# Altium integrated library ON Semi MOSFETs.IntLib: 1097 symbols (part 1 of 26)
Pins are listed as number, name and electrical type; pins without a type are passive.

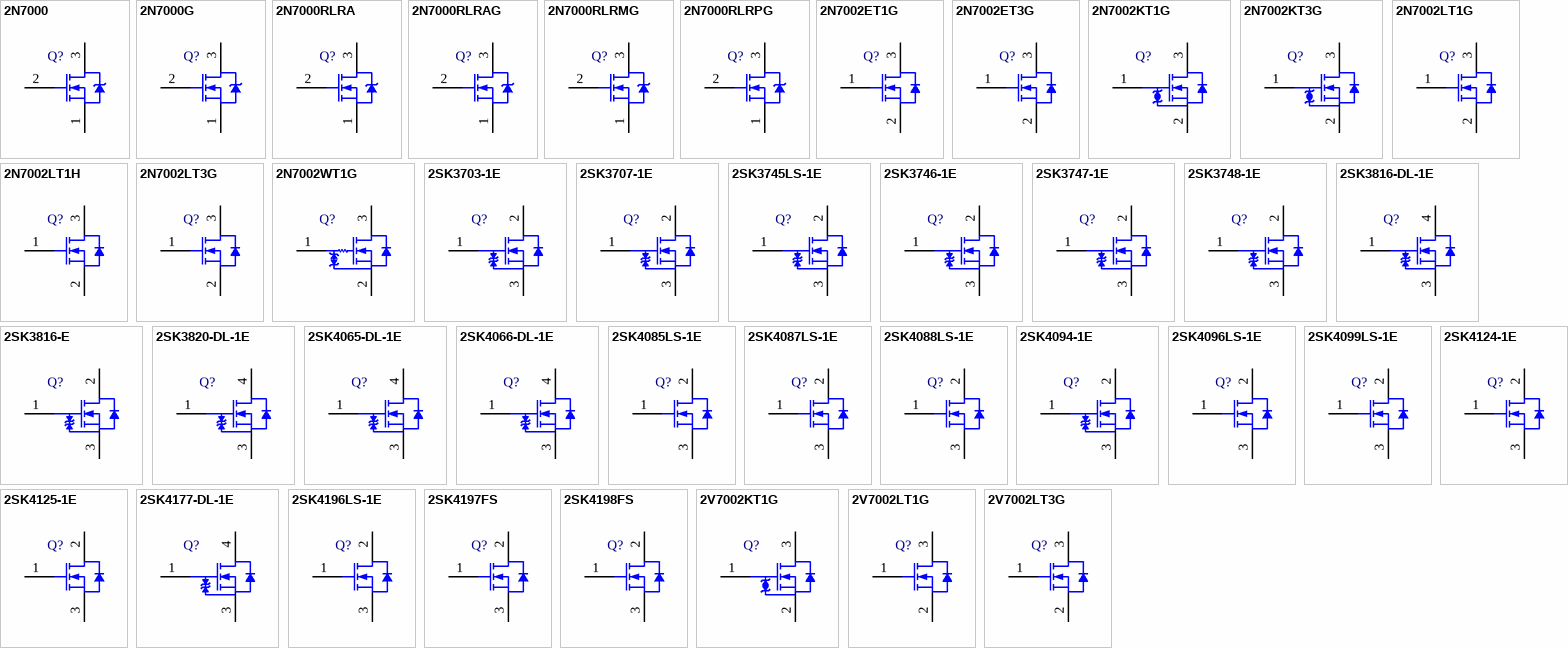
[diagram p0: symbols 2N7000 to 2V7002LT3G]

## 2N7000
designator Q?
Small Signal MOSFET, 200 mA, 60 V, N-Channel, 3-Pin TO-92, Bulk Box; Manufacturer: On Semiconductor; PartNumber: 2N7000; Channel Polarity: N Channel; Ciss Typ (pF): 60; Configuration: Single; Coss Typ (pF): 25; Crss Typ (pF): 5; ID Max (A): 0.2; PD Max (W): 0.35; VGS Max (V): 20; VGS(th) Max (V): 3; DatasheetVersion: Rev. 8; PackageVersion: Rev. AM; PackageReference: TO-92-3-29-11_AM_SL; PackageDescription: 3-Pin Transistor Outline, Body 4.825 x 3.685 mm, Pitch 1.27 mm; Package Type: TO-92; Packing: Bulk Box; V(BR)DSS Min (V): 60; Mounting Technology: Through Hole; ComponentLink1Description: Manufacturer URL; ComponentLink1URL: http://www.onsemi.com/; ComponentLink2Description: Datasheet; ComponentLink2URL: http://www.onsemi.com/pub_link/Collateral/2N7000-D.PDF; ComponentLink3Description: Package Specification; ComponentLink3URL: http://www.onsemi.cn/pub_link/Collateral/2N6426-D.PDF
footprint ONSC-TO-92-3-29-11 (TO, 3-Leads, Body Dia 4.7mm, Pitch 1.27mm)
pins: 1 S, 2 G, 3 D

## 2N7000G
designator Q?
Small Signal MOSFET, 200 mA, 60 V, N-Channel, 3-Pin TO-92, Pb-Free, Bulk Box; Manufacturer: On Semiconductor; PartNumber: 2N7000G; Channel Polarity: N Channel; Ciss Typ (pF): 60; Configuration: Single; Coss Typ (pF): 25; Crss Typ (pF): 5; ID Max (A): 0.2; PD Max (W): 0.35; VGS Max (V): 20; VGS(th) Max (V): 3; DatasheetVersion: Rev. 8; PackageVersion: Rev. AM; PackageReference: TO-92-3-29-11_AM_SL; PackageDescription: 3-Pin Transistor Outline, Body 4.825 x 3.685 mm, Pitch 1.27 mm; Supplier 1: Digi-Key; Supplier Part Number 1: 2N7000GOS-ND; Supplier 2: Farnell; Supplier Part Number 2: 1459027; Supplier 3: Newark; Supplier Part Number 3: 88H5170; Supplier 4: Mouser; Supplier Part Number 4: 863-2N7000G; Package Type: TO-92; Packing: Bulk Box; RoHS: Pb-Free; V(BR)DSS Min (V): 60; Mounting Technology: Through Hole; ComponentLink1Description: Manufacturer URL; ComponentLink1URL: http://www.onsemi.com/; ComponentLink2Description: Datasheet; ComponentLink2URL: http://www.onsemi.com/pub_link/Collateral/2N7000-D.PDF; ComponentLink3Description: Package Specification; ComponentLink3URL: http://www.onsemi.cn/pub_link/Collateral/2N6426-D.PDF
footprint ONSC-TO-92-3-29-11 (TO, 3-Leads, Body Dia 4.7mm, Pitch 1.27mm)
pins: 1 S, 2 G, 3 D

## 2N7000RLRA
designator Q?
Small Signal MOSFET, 200 mA, 60 V, N-Channel, 3-Pin TO-92, Tape and Reel; Manufacturer: On Semiconductor; PartNumber: 2N7000RLRA; Channel Polarity: N Channel; Ciss Typ (pF): 60; Configuration: Single; Coss Typ (pF): 25; Crss Typ (pF): 5; ID Max (A): 0.2; PD Max (W): 0.35; VGS Max (V): 20; VGS(th) Max (V): 3; DatasheetVersion: Rev. 8; PackageVersion: Rev. AM; PackageReference: TO-92-3-29-11_AM_BL; PackageDescription: 3-Pin Transistor Outline, Body 4.825 x 3.685 mm, Pitch 1.27 mm; Supplier 1: Digi-Key; Supplier Part Number 1: 2N7000RLRAOSTR-ND; Supplier 2: Digi-Key; Supplier Part Number 2: 2N7000RLRAOSCT-ND; Package Type: TO-92; Packing: Tape and Reel; V(BR)DSS Min (V): 60; Mounting Technology: Through Hole; ComponentLink1Description: Manufacturer URL; ComponentLink1URL: http://www.onsemi.com/; ComponentLink2Description: Datasheet; ComponentLink2URL: http://www.onsemi.com/pub_link/Collateral/2N7000-D.PDF; ComponentLink3Description: Package Specification; ComponentLink3URL: http://www.onsemi.com/pub_link/Collateral/MAC97-D.PDF
footprint ONSC-TO-92-3-29-11_AM_BL (TO, 3-Leads, Body Dia 4.7mm, Pitch 2.6mm)
pins: 1 S, 2 G, 3 D

## 2N7000RLRAG
designator Q?
Small Signal MOSFET, 200 mA, 60 V, N-Channel, 3-Pin TO-92, Pb-Free, Tape and Reel; Manufacturer: On Semiconductor; PartNumber: 2N7000RLRAG; Channel Polarity: N Channel; Ciss Typ (pF): 60; Configuration: Single; Coss Typ (pF): 25; Crss Typ (pF): 5; ID Max (A): 0.2; PD Max (W): 0.35; VGS Max (V): 20; VGS(th) Max (V): 3; DatasheetVersion: Rev. 8; PackageVersion: Rev. AM; PackageReference: TO-92-3-29-11_AM_BL; PackageDescription: 3-Pin Transistor Outline, Body 4.825 x 3.685 mm, Pitch 1.27 mm; Supplier 1: Digi-Key; Supplier Part Number 1: 2N7000RLRAGOSTR-ND; Supplier 2: Digi-Key; Supplier Part Number 2: 2N7000RLRAGOSCT-ND; Supplier 3: Farnell; Supplier Part Number 3: 1155745; Supplier 4: Farnell; Supplier Part Number 4: 2370859; Supplier 5: Newark; Supplier Part Number 5: 88H5171; Supplier 6: Newark; Supplier Part Number 6: 67R1417; Supplier 7: Mouser; Supplier Part Number 7: 863-2N7000RLRAG; Package Type: TO-92; Packing: Tape and Reel; RoHS: Pb-Free; V(BR)DSS Min (V): 60; Mounting Technology: Through Hole; ComponentLink1Description: Manufacturer URL; ComponentLink1URL: http://www.onsemi.com/; ComponentLink2Description: Datasheet; ComponentLink2URL: http://www.onsemi.com/pub_link/Collateral/2N7000-D.PDF; ComponentLink3Description: Package Specification; ComponentLink3URL: http://www.onsemi.com/pub_link/Collateral/MAC97-D.PDF
footprint ONSC-TO-92-3-29-11_AM_BL (TO, 3-Leads, Body Dia 4.7mm, Pitch 2.6mm)
pins: 1 S, 2 G, 3 D

## 2N7000RLRMG
designator Q?
Small Signal MOSFET, 200 mA, 60 V, N-Channel, 3-Pin TO-92, Pb-Free, Fan-Fold; Manufacturer: On Semiconductor; PartNumber: 2N7000RLRMG; Channel Polarity: N Channel; Ciss Typ (pF): 60; Configuration: Single; Coss Typ (pF): 25; Crss Typ (pF): 5; ID Max (A): 0.2; PD Max (W): 0.35; VGS Max (V): 20; VGS(th) Max (V): 3; DatasheetVersion: Rev. 8; PackageVersion: Rev. AM; PackageReference: TO-92-3-29-11_AM_BL; PackageDescription: 3-Pin Transistor Outline, Body 4.825 x 3.685 mm, Pitch 1.27 mm; Supplier 1: Digi-Key; Supplier Part Number 1: 2N7000RLRMG-ND; Supplier 2: Mouser; Supplier Part Number 2: 863-2N7000RLRMG; Package Type: TO-92; Packing: Fan-Fold; RoHS: Pb-Free; V(BR)DSS Min (V): 60; Mounting Technology: Through Hole; ComponentLink1Description: Manufacturer URL; ComponentLink1URL: http://www.onsemi.com/; ComponentLink2Description: Datasheet; ComponentLink2URL: http://www.onsemi.com/pub_link/Collateral/2N7000-D.PDF; ComponentLink3Description: Package Specification; ComponentLink3URL: http://www.onsemi.com/pub_link/Collateral/MAC97-D.PDF
footprint ONSC-TO-92-3-29-11_AM_BL (TO, 3-Leads, Body Dia 4.7mm, Pitch 2.6mm)
pins: 1 S, 2 G, 3 D

## 2N7000RLRPG
designator Q?
Small Signal MOSFET, 200 mA, 60 V, N-Channel, 3-Pin TO-92, Pb-Free, Fan-Fold; Manufacturer: On Semiconductor; PartNumber: 2N7000RLRPG; Channel Polarity: N Channel; Ciss Typ (pF): 60; Configuration: Single; Coss Typ (pF): 25; Crss Typ (pF): 5; ID Max (A): 0.2; PD Max (W): 0.35; VGS Max (V): 20; VGS(th) Max (V): 3; DatasheetVersion: Rev. 8; PackageVersion: Rev. AM; PackageReference: TO-92-3-29-11_AM_BL; PackageDescription: 3-Pin Transistor Outline, Body 4.825 x 3.685 mm, Pitch 1.27 mm; Supplier 1: Digi-Key; Supplier Part Number 1: 2N7000RLRPG-ND; Supplier 2: Mouser; Supplier Part Number 2: 863-2N7000RLRPG; Package Type: TO-92; Packing: Fan-Fold; RoHS: Pb-Free; V(BR)DSS Min (V): 60; Mounting Technology: Through Hole; ComponentLink1Description: Manufacturer URL; ComponentLink1URL: http://www.onsemi.com/; ComponentLink2Description: Datasheet; ComponentLink2URL: http://www.onsemi.com/pub_link/Collateral/2N7000-D.PDF; ComponentLink3Description: Package Specification; ComponentLink3URL: http://www.onsemi.com/pub_link/Collateral/MAC97-D.PDF
footprint ONSC-TO-92-3-29-11_AM_BL (TO, 3-Leads, Body Dia 4.7mm, Pitch 2.6mm)
pins: 1 S, 2 G, 3 D

## 2N7002ET1G
designator Q?
Small Signal MOSFET, 60 V, 310 mA, Single, N-Channel, 3-Pin SOT-23, Pb-Free, Tape and Reel; Manufacturer: On Semiconductor; PartNumber: 2N7002ET1G; Channel Polarity: N Channel; Ciss Typ (pF): 26.7; Coss Typ (pF): 4.6; Crss Typ (pF): 2.9; ID Max (A): 0.31; V(BR)DSS Min (V): 60; VGS Max (V): 20; VGS(th) Max (V): 2.5; DatasheetVersion: Rev. 3; PackageVersion: Rev. AP, 11/2009; PackageReference: SOT-23-3-318-08; PackageDescription: 3-Pin Small Outline Transistor, Body 2.92 x 1.3 mm, Pitch 0.95 mm; Supplier 1: Digi-Key; Supplier Part Number 1: 2N7002ET1GOSTR-ND; Supplier 2: Digi-Key; Supplier Part Number 2: 2N7002ET1GOSCT-ND; Supplier 3: Digi-Key; Supplier Part Number 3: 2N7002ET1GOSDKR-ND; Supplier 4: Farnell; Supplier Part Number 4: 2317895; Supplier 5: Farnell; Supplier Part Number 5: 2317616; Supplier 6: Newark; Supplier Part Number 6: 09R9861; Supplier 7: Newark; Supplier Part Number 7: 50M2216; Supplier 8: Mouser; Supplier Part Number 8: 863-2N7002ET1G; Configuration: Single; Package Type: SOT-23-3; Packing: Tape and Reel; RoHS: Pb-Free; Mounting Technology: Surface Mount; ComponentLink1Description: Manufacturer URL; ComponentLink1URL: http://www.onsemi.com/; ComponentLink2Description: Datasheet; ComponentLink2URL: http://www.onsemi.com/pub_link/Collateral/2N7002E-D.PDF; ComponentLink3Description: Package Specification; ComponentLink3URL: http://www.onsemi.cn/pub_link/Collateral/318-08.PDF
footprint ONSC-SOT-23-3-318-08_V (SOT23, 3-Leads, Body 2.92x1.3mm, Pitch 0.95mm)
pins: 1 G, 2 S, 3 D

## 2N7002ET3G
designator Q?
Small Signal MOSFET, 60 V, 310 mA, Single, N-Channel, 3-Pin SOT-23, Pb-Free, Tape and Reel; Manufacturer: On Semiconductor; PartNumber: 2N7002ET3G; Channel Polarity: N Channel; Ciss Typ (pF): 26.7; Coss Typ (pF): 4.6; Crss Typ (pF): 2.9; ID Max (A): 0.31; V(BR)DSS Min (V): 60; VGS Max (V): 20; VGS(th) Max (V): 2.5; DatasheetVersion: Rev. 3; PackageVersion: Rev. AP, 11/2009; PackageReference: SOT-23-3-318-08; PackageDescription: 3-Pin Small Outline Transistor, Body 2.92 x 1.3 mm, Pitch 0.95 mm; Supplier 1: Digi-Key; Supplier Part Number 1: 2N7002ET3G-ND; Supplier 2: Newark; Supplier Part Number 2: 09R9862; Supplier 3: Mouser; Supplier Part Number 3: 863-2N7002ET3G; Configuration: Single; Package Type: SOT-23-3; Packing: Tape and Reel; RoHS: Pb-Free; Mounting Technology: Surface Mount; ComponentLink1Description: Manufacturer URL; ComponentLink1URL: http://www.onsemi.com/; ComponentLink2Description: Datasheet; ComponentLink2URL: http://www.onsemi.com/pub_link/Collateral/2N7002E-D.PDF; ComponentLink3Description: Package Specification; ComponentLink3URL: http://www.onsemi.cn/pub_link/Collateral/318-08.PDF
footprint ONSC-SOT-23-3-318-08_V (SOT23, 3-Leads, Body 2.92x1.3mm, Pitch 0.95mm)
pins: 1 G, 2 S, 3 D

## 2N7002KT1G
designator Q?
Small Signal MOSFET, 60 V, 380 mA, Single, N-Channel, 3-Pin SOT-23, Pb-Free, Tape and Reel; Manufacturer: On Semiconductor; PartNumber: 2N7002KT1G; Channel Polarity: N Channel; Ciss Typ (pF): 24.5; Coss Typ (pF): 4.2; Crss Typ (pF): 2.2; ID Max (A): 0.38; V(BR)DSS Min (V): 60; VGS Max (V): 20; VGS(th) Max (V): 2.3; DatasheetVersion: Rev. 11; PackageVersion: Rev. AP, 11/2009; PackageReference: SOT-23-3-318-08; PackageDescription: 3-Pin Small Outline Transistor, Body 2.92 x 1.3 mm, Pitch 0.95 mm; Supplier 1: Digi-Key; Supplier Part Number 1: 2N7002KT1GOSTR-ND; Supplier 2: Digi-Key; Supplier Part Number 2: 2N7002KT1GOSCT-ND; Supplier 3: Digi-Key; Supplier Part Number 3: 2N7002KT1GOSDKR-ND; Supplier 4: Farnell; Supplier Part Number 4: 2317619; Supplier 5: Farnell; Supplier Part Number 5: 2317894; Supplier 6: Newark; Supplier Part Number 6: 50M6388; Supplier 7: Newark; Supplier Part Number 7: 09R9863; Supplier 8: Mouser; Supplier Part Number 8: 863-2N7002KT1G; Configuration: Single; Package Type: SOT-23-3; Packing: Tape and Reel; RoHS: Pb-Free; Mounting Technology: Surface Mount; ComponentLink1Description: Manufacturer URL; ComponentLink1URL: http://www.onsemi.com/; ComponentLink2Description: Datasheet; ComponentLink2URL: http://www.onsemi.com/pub_link/Collateral/2N7002K-D.PDF; ComponentLink3Description: Package Specification; ComponentLink3URL: http://www.onsemi.cn/pub_link/Collateral/318-08.PDF
footprint ONSC-SOT-23-3-318-08_V (SOT23, 3-Leads, Body 2.92x1.3mm, Pitch 0.95mm)
pins: 1 G, 2 S, 3 D

## 2N7002KT3G
designator Q?
Small Signal MOSFET, 60 V, 380 mA, Single, N-Channel, 3-Pin SOT-23, Pb-Free, Tape and Reel; Manufacturer: On Semiconductor; PartNumber: 2N7002KT3G; Channel Polarity: N Channel; Ciss Typ (pF): 24.5; Coss Typ (pF): 4.2; Crss Typ (pF): 2.2; ID Max (A): 0.38; V(BR)DSS Min (V): 60; VGS Max (V): 20; VGS(th) Max (V): 2.3; DatasheetVersion: Rev. 11; PackageVersion: Rev. AP, 11/2009; PackageReference: SOT-23-3-318-08; PackageDescription: 3-Pin Small Outline Transistor, Body 2.92 x 1.3 mm, Pitch 0.95 mm; Supplier 1: Digi-Key; Supplier Part Number 1: 2N7002KT3G-ND; Supplier 2: Mouser; Supplier Part Number 2: 863-2N7002KT3G; Configuration: Single; Package Type: SOT-23-3; Packing: Tape and Reel; RoHS: Pb-Free; Mounting Technology: Surface Mount; ComponentLink1Description: Manufacturer URL; ComponentLink1URL: http://www.onsemi.com/; ComponentLink2Description: Datasheet; ComponentLink2URL: http://www.onsemi.com/pub_link/Collateral/2N7002K-D.PDF; ComponentLink3Description: Package Specification; ComponentLink3URL: http://www.onsemi.cn/pub_link/Collateral/318-08.PDF
footprint ONSC-SOT-23-3-318-08_V (SOT23, 3-Leads, Body 2.92x1.3mm, Pitch 0.95mm)
pins: 1 G, 2 S, 3 D

## 2N7002LT1G
designator Q?
Small Signal MOSFET, 60 V, 115 mA, N-Channel, 3-Pin SOT-23, Pb-Free, Tape and Reel; Manufacturer: On Semiconductor; PartNumber: 2N7002LT1G; Channel Polarity: N Channel; Configuration: Single; ID Max (A): 0.115; V(BR)DSS Min (V): 60; VGS Max (V): 20; VGS(th) Max (V): 2.5; DatasheetVersion: Rev. 7; PackageVersion: Rev. AP, 11/2009; PackageReference: SOT-23-3-318-08; PackageDescription: 3-Pin Small Outline Transistor, Body 2.92 x 1.3 mm, Pitch 0.95 mm; Supplier 1: Digi-Key; Supplier Part Number 1: 2N7002LT1GOSTR-ND; Supplier 2: Digi-Key; Supplier Part Number 2: 2N7002LT1GOSCT-ND; Supplier 3: Digi-Key; Supplier Part Number 3: 2N7002LT1GOSDKR-ND; Supplier 4: Farnell; Supplier Part Number 4: 9558624RL; Supplier 5: Farnell; Supplier Part Number 5: 9558624; Supplier 6: Farnell; Supplier Part Number 6: 2363494; Supplier 7: Newark; Supplier Part Number 7: 67R1418; Supplier 8: Newark; Supplier Part Number 8: 83H7920; Supplier 9: Mouser; Supplier Part Number 9: 863-2N7002LT1G; Package Type: SOT-23-3; Packing: Tape and Reel; RoHS: Pb-Free; Mounting Technology: Surface Mount; ComponentLink1Description: Manufacturer URL; ComponentLink1URL: http://www.onsemi.com/; ComponentLink2Description: Datasheet; ComponentLink2URL: http://www.onsemi.com/pub_link/Collateral/2N7002L-D.PDF; ComponentLink3Description: Package Specification; ComponentLink3URL: http://www.onsemi.cn/pub_link/Collateral/318-08.PDF
footprint ONSC-SOT-23-3-318-08_V (SOT23, 3-Leads, Body 2.92x1.3mm, Pitch 0.95mm)
pins: 1 G, 2 S, 3 D

## 2N7002LT1H
designator Q?
Small Signal MOSFET, 60 V, 115 mA, N-Channel, 3-Pin SOT-23, Pb-Free, Tape and Reel; Manufacturer: On Semiconductor; PartNumber: 2N7002LT1H; Channel Polarity: N Channel; Configuration: Single; ID Max (A): 0.115; V(BR)DSS Min (V): 60; VGS Max (V): 20; VGS(th) Max (V): 2.5; DatasheetVersion: Rev. 7; PackageVersion: Rev. AP, 11/2009; PackageReference: SOT-23-3-318-08; PackageDescription: 3-Pin Small Outline Transistor, Body 2.92 x 1.3 mm, Pitch 0.95 mm; Supplier 1: Mouser; Supplier Part Number 1: N/A; Package Type: SOT-23-3; Packing: Tape and Reel; RoHS: Pb-Free; Mounting Technology: Surface Mount; ComponentLink1Description: Manufacturer URL; ComponentLink1URL: http://www.onsemi.com/; ComponentLink2Description: Datasheet; ComponentLink2URL: http://www.onsemi.com/pub_link/Collateral/2N7002L-D.PDF; ComponentLink3Description: Package Specification; ComponentLink3URL: http://www.onsemi.cn/pub_link/Collateral/318-08.PDF
footprint ONSC-SOT-23-3-318-08_V (SOT23, 3-Leads, Body 2.92x1.3mm, Pitch 0.95mm)
pins: 1 G, 2 S, 3 D

## 2N7002LT3G
designator Q?
Small Signal MOSFET, 60 V, 115 mA, N-Channel, 3-Pin SOT-23, Pb-Free, Tape and Reel; Manufacturer: On Semiconductor; PartNumber: 2N7002LT3G; Channel Polarity: N Channel; Configuration: Single; ID Max (A): 0.115; V(BR)DSS Min (V): 60; VGS Max (V): 20; VGS(th) Max (V): 2.5; DatasheetVersion: Rev. 7; PackageVersion: Rev. AP, 11/2009; PackageReference: SOT-23-3-318-08; PackageDescription: 3-Pin Small Outline Transistor, Body 2.92 x 1.3 mm, Pitch 0.95 mm; Supplier 1: Digi-Key; Supplier Part Number 1: 2N7002LT3GOSTR-ND; Supplier 2: Digi-Key; Supplier Part Number 2: 2N7002LT3GOSCT-ND; Supplier 3: Digi-Key; Supplier Part Number 3: 2N7002LT3GOSDKR-ND; Supplier 4: Farnell; Supplier Part Number 4: 1764537; Supplier 5: Farnell; Supplier Part Number 5: 2372924; Supplier 6: Newark; Supplier Part Number 6: 98H1012; Supplier 7: Newark; Supplier Part Number 7: 09R9864; Supplier 8: Mouser; Supplier Part Number 8: 863-2N7002LT3G; Package Type: SOT-23-3; Packing: Tape and Reel; RoHS: Pb-Free; Mounting Technology: Surface Mount; ComponentLink1Description: Manufacturer URL; ComponentLink1URL: http://www.onsemi.com/; ComponentLink2Description: Datasheet; ComponentLink2URL: http://www.onsemi.com/pub_link/Collateral/2N7002L-D.PDF; ComponentLink3Description: Package Specification; ComponentLink3URL: http://www.onsemi.cn/pub_link/Collateral/318-08.PDF
footprint ONSC-SOT-23-3-318-08_V (SOT23, 3-Leads, Body 2.92x1.3mm, Pitch 0.95mm)
pins: 1 G, 2 S, 3 D

## 2N7002WT1G
designator Q?
Small Signal MOSFET, 60 V, 340 mA, Single, N-Channel, 3-Pin SC70, Pb-Free, Tape and Reel; Manufacturer: On Semiconductor; PartNumber: 2N7002WT1G; Channel Polarity: N Channel; Ciss Typ (pF): 24.5; Coss Typ (pF): 4.2; Crss Typ (pF): 2.2; ID Max (A): 0.34; V(BR)DSS Min (V): 60; VGS Max (V): 20; VGS(th) Max (V): 2.5; DatasheetVersion: Rev. 5; PackageVersion: Rev. N, 11/2008; PackageReference: SC-70-3-419-04; PackageDescription: 3-Pin Small Outline Transistor, Body 2 x 1.25 mm, Pitch 0.65 mm; Supplier 1: Digi-Key; Supplier Part Number 1: 2N7002WT1GOSTR-ND; Supplier 2: Digi-Key; Supplier Part Number 2: 2N7002WT1GOSCT-ND; Supplier 3: Digi-Key; Supplier Part Number 3: 2N7002WT1GOSDKR-ND; Supplier 4: Farnell; Supplier Part Number 4: 2369562; Supplier 5: Farnell; Supplier Part Number 5: 1764538; Supplier 6: Newark; Supplier Part Number 6: 09R9865; Supplier 7: Newark; Supplier Part Number 7: 50M6390; Supplier 8: Mouser; Supplier Part Number 8: 863-2N7002WT1G; Configuration: Single; Package Type: SC-70-3 / SOT-323-3; Packing: Tape and Reel; RoHS: Pb-Free; Mounting Technology: Surface Mount; ComponentLink1Description: Manufacturer URL; ComponentLink1URL: http://www.onsemi.com/; ComponentLink2Description: Datasheet; ComponentLink2URL: http://www.onsemi.com/pub_link/Collateral/2N7002W-D.PDF; ComponentLink3Description: Package Specification; ComponentLink3URL: http://www.onsemi.cn/pub_link/Collateral/419-04.PDF
footprint ONSC-SC-70-3-419-04_V (SOT23, 3-Leads, Body 2x1.25mm, Pitch 0.65mm)
pins: 1 G, 2 S, 3 D

## 2SK3703-1E
designator Q?
N-Channel Power MOSFET, 60 V, 30 A, 26 mOhm, 3-Pin TO-220, Pb-Free, Tube; Manufacturer: On Semiconductor; PartNumber: 2SK3703-1E; Channel Polarity: N Channel; Ciss Typ (pF): 1780; Configuration: Single; Coss Typ (pF): 266; Crss Typ (pF): 197; ID Max (A): 30; V(BR)DSS Min (V): 60; VGS Max (V): 20; VGS(th) Max (V): 2.6; PackageVersion: Rev. O, 11/2013; PackageReference: TO-220F-3FG-3-221AT; PackageDescription: 3-Pin Flange Mount, Vertical Straight Lead, Body 10.16 x 4.7 mm, Pitch 2.54 mm; Supplier 1: Newark; Supplier Part Number 1: 60W2033; Supplier 2: Mouser; Supplier Part Number 2: 863-2SK3703-1E; Package Type: TO-220 Fullpack, 3-Lead / TO-220F-3SG; Packing: Tube; RoHS: Pb-Free; Mounting Technology: Through Hole; ComponentLink1Description: Manufacturer URL; ComponentLink1URL: http://www.onsemi.com/; ComponentLink2Description: Datasheet; ComponentLink2URL: http://www.onsemi.com/pub_link/Collateral/2SK3703-D.PDF; ComponentLink3Description: Package Specification; ComponentLink3URL: http://www.onsemi.com/pub_link/Collateral/221AT.PDF
footprint ONSC-TO-220F-3FG-3-221AT (FM, 3-Leads, Body 10.4x4.9mm, Pitch 2.54mm)
pins: 1 G, 2 D, 3 S

## 2SK3707-1E
designator Q?
N-Channel Power MOSFET, 100 V, 20 A, 60 mOhm, 3-Pin TO-220, Pb-Free, Fan-Fold; Manufacturer: On Semiconductor; PartNumber: 2SK3707-1E; Channel Polarity: N Channel; Ciss Typ (pF): 2150; Configuration: Single; Coss Typ (pF): 160; Crss Typ (pF): 110; ID Max (A): 20; V(BR)DSS Min (V): 100; VGS(th) Max (V): 2.6; PackageVersion: Rev. O, 11/2013; PackageReference: TO-220F-3FG-3-221AT; PackageDescription: 3-Pin Flange Mount, Vertical Straight Lead, Body 10.16 x 4.7 mm, Pitch 2.54 mm; Supplier 1: Newark; Supplier Part Number 1: 60W2034; Supplier 2: Mouser; Supplier Part Number 2: 863-2SK3707-1E; Package Type: TO-220 Fullpack, 3-Lead / TO-220F-3SG; Packing: Fan-Fold; RoHS: Pb-Free; VGS Max (V): 20; Mounting Technology: Through Hole; ComponentLink1Description: Manufacturer URL; ComponentLink1URL: http://www.onsemi.com/; ComponentLink2Description: Datasheet; ComponentLink2URL: http://www.onsemi.com/pub_link/Collateral/2SK3707-D.PDF; ComponentLink3Description: Package Specification; ComponentLink3URL: http://www.onsemi.com/pub_link/Collateral/221AT.PDF
footprint ONSC-TO-220F-3FG-3-221AT (FM, 3-Leads, Body 10.4x4.9mm, Pitch 2.54mm)
pins: 1 G, 2 D, 3 S

## 2SK3745LS-1E
designator Q?
N-Channel Power MOSFET, 1500 V, 2 A, 13 Ohm, 3-Pin TO-220, Pb-Free, Tube; Manufacturer: On Semiconductor; PartNumber: 2SK3745LS-1E; Channel Polarity: N Channel; Ciss Typ (pF): 380; Configuration: Single; Coss Typ (pF): 70; Crss Typ (pF): 40; ID Max (A): 2; V(BR)DSS Min (V): 1500; VGS Max (V): 20; VGS(th) Max (V): 3.5; PackageVersion: Rev. O, 01/2012; PackageReference: TO-220F-3FS-3-221AM; PackageDescription: 3-Pin Flange Mount, Vertical Straight Lead, Body 10.16 x 4.7 mm, Pitch 2.54 mm; Supplier 1: Newark; Supplier Part Number 1: 45W5069; Supplier 2: Mouser; Supplier Part Number 2: 863-2SK3745LS-1E; Package Type: TO-220F-3FS; Packing: Tube; RoHS: Pb-Free; Mounting Technology: Through Hole; ComponentLink1Description: Manufacturer URL; ComponentLink1URL: http://www.onsemi.com/; ComponentLink2Description: Datasheet; ComponentLink2URL: http://www.onsemi.com/pub_link/Collateral/2SK3745LS-D.PDF; ComponentLink3Description: Package Specification; ComponentLink3URL: http://www.onsemi.com/pub_link/Collateral/221AM.PDF
footprint ONSC-TO-220F-3FS-3-221AM (FM, 3-Leads, Body 10.4x4.9mm, Pitch 2.54mm)
pins: 1 G, 2 D, 3 S

## 2SK3746-1E
designator Q?
N-Channel Power MOSFET, 1500 V, 2 A, 13 Ohm, 3-Pin TO-3P, Pb-Free, Tube; Manufacturer: On Semiconductor; PartNumber: 2SK3746-1E; Channel Polarity: N Channel; Ciss Typ (pF): 380; Configuration: Single; Coss Typ (pF): 70; Crss Typ (pF): 40; ID Max (A): 2; V(BR)DSS Min (V): 1500; VGS Max (V): 20; VGS(th) Max (V): 3.5; PackageVersion: Rev. O, 04/2012; PackageReference: TO-3P-3L-3-340AF; PackageDescription: 3-Pin Flange Mount, Vertical Straight Lead, Body 15.6 x 4.8 mm, Pitch 5.45 mm; Supplier 1: Mouser; Supplier Part Number 1: 863-2SK3746-1E; Package Type: TO-3P-3L; Packing: Tube; RoHS: Pb-Free; Mounting Technology: Through Hole; ComponentLink1Description: Manufacturer URL; ComponentLink1URL: http://www.onsemi.com/; ComponentLink2Description: Datasheet; ComponentLink2URL: http://www.onsemi.com/pub_link/Collateral/2SK3746-D.PDF; ComponentLink3Description: Package Specification; ComponentLink3URL: http://www.onsemi.com/pub_link/Collateral/340AF.PDF
footprint ONSC-TO-3P-3L-3-340AF (FM, 3-Leads, Body 15.8x5mm, Pitch 5.45mm)
pins: 1 G, 2 D, 3 S

## 2SK3747-1E
designator Q?
N-Channel Power MOSFET, 1500 V, 2 A, 13 Ohm, 3-Pin TO-3PF, Pb-Free, Tube; Manufacturer: On Semiconductor; PartNumber: 2SK3747-1E; Channel Polarity: N Channel; Ciss Typ (pF): 380; Configuration: Single; Coss Typ (pF): 70; Crss Typ (pF): 40; ID Max (A): 2; V(BR)DSS Min (V): 1500; VGS Max (V): 35; VGS(th) Max (V): 3.5; PackageVersion: Rev. O, 04/2012; PackageReference: TO-3PF-3L-3-340AH; PackageDescription: 3-Pin Flange Mount, Body 15.5 x 5.5 mm, Pitch 5.45 mm; Supplier 1: Newark; Supplier Part Number 1: 45W5071; Supplier 2: Mouser; Supplier Part Number 2: 863-2SK3747-1E; Package Type: TO-3PF-3L; Packing: Tube; RoHS: Pb-Free; Mounting Technology: Through Hole; ComponentLink1Description: Manufacturer URL; ComponentLink1URL: http://www.onsemi.com/; ComponentLink2Description: Datasheet; ComponentLink2URL: http://www.onsemi.com/pub_link/Collateral/2SK3747-D.PDF; ComponentLink3Description: Package Specification; ComponentLink3URL: http://www.onsemi.com/pub_link/Collateral/340AH.PDF
footprint ONSC-TO-3PF-3L-3-340AH (FM, 3-Leads, Body 15.7x5.7mm, Pitch 5.45mm)
pins: 1 G, 2 D, 3 S

## 2SK3748-1E
designator Q?
N-Channel Power MOSFET, 1500 V, 4 A, 7 Ohm, 3-Pin TO-3PF, Pb-Free, Tube; Manufacturer: On Semiconductor; PartNumber: 2SK3748-1E; Channel Polarity: N Channel; Ciss Typ (pF): 790; Configuration: Single; Coss Typ (pF): 140; Crss Typ (pF): 70; ID Max (A): 4; V(BR)DSS Min (V): 1500; VGS Max (V): 20; VGS(th) Max (V): 3.5; PackageVersion: Rev. O, 04/2012; PackageReference: TO-3PF-3L-3-340AH; PackageDescription: 3-Pin Flange Mount, Body 15.5 x 5.5 mm, Pitch 5.45 mm; Supplier 1: Newark; Supplier Part Number 1: 45W5072; Supplier 2: Mouser; Supplier Part Number 2: 863-2SK3748-1E; Package Type: TO-3PF-3L; Packing: Tube; RoHS: Pb-Free; Mounting Technology: Through Hole; ComponentLink1Description: Manufacturer URL; ComponentLink1URL: http://www.onsemi.com/; ComponentLink2Description: Datasheet; ComponentLink2URL: http://www.onsemi.com/pub_link/Collateral/2SK3748-D.PDF; ComponentLink3Description: Package Specification; ComponentLink3URL: http://www.onsemi.com/pub_link/Collateral/340AH.PDF
footprint ONSC-TO-3PF-3L-3-340AH (FM, 3-Leads, Body 15.7x5.7mm, Pitch 5.45mm)
pins: 1 G, 2 D, 3 S

## 2SK3816-DL-1E
designator Q?
N-Channel Power MOSFET, 60 V, 40 A, 26 mOhm, 3-Pin TO-263, Pb-Free, Tape and Reel; Manufacturer: On Semiconductor; PartNumber: 2SK3816-DL-1E; Channel Polarity: N Channel; Ciss Typ (pF): 1780; Configuration: Single; Coss Typ (pF): 266; Crss Typ (pF): 197; ID Max (A): 40; V(BR)DSS Min (V): 60; VGS Max (V): 20; VGS(th) Max (V): 2.6; PackageReference: TO-263-2L-3; PackageDescription: 3-Pin Flange Mount, Body 10 x 9.2 mm, Pitch 2.54 mm; Supplier 1: Newark; Supplier Part Number 1: 97W6592; Supplier 2: Mouser; Supplier Part Number 2: 863-2SK3816-DL-1E; Package Type: D2PAK / TO-263-2L; Packing: Tape and Reel; RoHS: Pb-Free; Mounting Technology: Surface Mount; ComponentLink1Description: Manufacturer URL; ComponentLink1URL: http://www.onsemi.com/; ComponentLink2Description: Datasheet; ComponentLink2URL: http://www.onsemi.com/pub/Collateral/ENN8054-D.PDF; ComponentLink3Description: Package Specification; ComponentLink3URL: http://www.onsemi.com/pub_link/Collateral/2SK3820-D.PDF
footprint ONSC-TO-263-2L-3_V (FM, 3-Leads, Body 10x9.2mm, Pitch 2.54mm)
pins: 1 G, 3 S, 4 D

## 2SK3816-E
designator Q?
N-Channel Power MOSFET, 60 V, 40 A, 26 mOhm, 3-Pin TO-262, Pb-Free, Bulk Bag; Manufacturer: On Semiconductor; PartNumber: 2SK3816-E; Channel Polarity: N Channel; Ciss Typ (pF): 1780; Configuration: Single; Coss Typ (pF): 266; Crss Typ (pF): 197; ID Max (A): 40; V(BR)DSS Min (V): 60; VGS Max (V): 20; VGS(th) Max (V): 2.6; PackageVersion: Rev. O, 03/2012; PackageReference: TO-262-3L-3-418AN; PackageDescription: 3-Pin Flange Mount, Vertical Straight Lead, Body 10 x 4.5 mm, Pitch 2.54 mm; Package Type: D2PAK / TO-263-2L; Packing: Bulk Bag; RoHS: Pb-Free; Mounting Technology: Through Hole; ComponentLink1Description: Manufacturer URL; ComponentLink1URL: http://www.onsemi.com/; ComponentLink2Description: Datasheet; ComponentLink2URL: http://www.onsemi.com/pub/Collateral/ENN8054-D.PDF; ComponentLink3Description: Package Specification; ComponentLink3URL: http://www.onsemi.com/pub_link/Collateral/418AN.PDF
footprint ONSC-TO-262-3L-3-418AN (FM, 3-Leads, Body 10.2x4.7mm, Pitch 2.54mm)
pins: 1 G, 2 D, 3 S

## 2SK3820-DL-1E
designator Q?
N-Channel Power MOSFET, 100 V, 26 A, 60 mOhm, 3-Pin TO-263, Pb-Free, Tape and Reel; Manufacturer: On Semiconductor; PartNumber: 2SK3820-DL-1E; Channel Polarity: N Channel; Ciss Typ (pF): 2150; Configuration: Single; Coss Typ (pF): 160; Crss Typ (pF): 110; ID Max (A): 26; V(BR)DSS Min (V): 100; VGS Max (V): 20; VGS(th) Max (V): 2.6; PackageReference: TO-263-2L-3; PackageDescription: 3-Pin Flange Mount, Body 10 x 9.2 mm, Pitch 2.54 mm; Supplier 1: Newark; Supplier Part Number 1: 97W6593; Supplier 2: Mouser; Supplier Part Number 2: 863-2SK3820-DL-1E; Package Type: D2PAK / TO-263-2L; Packing: Tape and Reel; RoHS: Pb-Free; Mounting Technology: Surface Mount; ComponentLink1Description: Manufacturer URL; ComponentLink1URL: http://www.onsemi.com/; ComponentLink2Description: Datasheet; ComponentLink2URL: http://www.onsemi.com/pub_link/Collateral/2SK3820-D.PDF; ComponentLink3Description: Package Specification; ComponentLink3URL: http://www.onsemi.com/pub_link/Collateral/2SK3820-D.PDF
footprint ONSC-TO-263-2L-3_V (FM, 3-Leads, Body 10x9.2mm, Pitch 2.54mm)
pins: 1 G, 3 S, 4 D

## 2SK4065-DL-1E
designator Q?
N-Channel Power MOSFET, 75 V, 100 A, 6 mOhm, 3-Pin TO-263, Pb-Free, Tape and Reel; Manufacturer: On Semiconductor; PartNumber: 2SK4065-DL-1E; Channel Polarity: N Channel; Ciss Typ (pF): 12200; Configuration: Single; Coss Typ (pF): 950; Crss Typ (pF): 730; ID Max (A): 100; V(BR)DSS Min (V): 75; VGS Max (V): 20; VGS(th) Max (V): 2.6; PackageReference: TO-263-2L-3; PackageDescription: 3-Pin Flange Mount, Body 10 x 9.2 mm, Pitch 2.54 mm; Supplier 1: Newark; Supplier Part Number 1: 60W2036; Supplier 2: Mouser; Supplier Part Number 2: 863-2SK4065-DL-1E; Package Type: D2PAK / TO-263-2L; Packing: Tape and Reel; RoHS: Pb-Free; Mounting Technology: Surface Mount; ComponentLink1Description: Manufacturer URL; ComponentLink1URL: http://www.onsemi.com/; ComponentLink2Description: Datasheet; ComponentLink2URL: http://www.onsemi.com/pub_link/Collateral/2SK4065-D.PDF; ComponentLink3Description: Package Specification; ComponentLink3URL: http://www.onsemi.com/pub_link/Collateral/2SK3820-D.PDF
footprint ONSC-TO-263-2L-3_V (FM, 3-Leads, Body 10x9.2mm, Pitch 2.54mm)
pins: 1 G, 3 S, 4 D

## 2SK4066-DL-1E
designator Q?
N-Channel Power MOSFET, 60 V, 100 A, 4.7 mOhm, 3-Pin TO-263, Pb-Free, Tape and Reel; Manufacturer: On Semiconductor; PartNumber: 2SK4066-DL-1E; Channel Polarity: N Channel; Ciss Typ (pF): 12500; Configuration: Single; Coss Typ (pF): 1200; Crss Typ (pF): 950; ID Max (A): 100; V(BR)DSS Min (V): 60; VGS Max (V): 20; VGS(th) Max (V): 2.6; PackageVersion: Rev. O, 03/2012; PackageReference: TO-263-2L-3-418AP; PackageDescription: 3-Pin Flange Mount, Body 10 x 9.2 mm, Pitch 2.54 mm; Supplier 1: Newark; Supplier Part Number 1: 60W2037; Supplier 2: Mouser; Supplier Part Number 2: 863-2SK4066-DL-1E; Package Type: D2PAK / TO-263-2L; Packing: Tape and Reel; RoHS: Pb-Free; Mounting Technology: Surface Mount; ComponentLink1Description: Manufacturer URL; ComponentLink1URL: http://www.onsemi.com/; ComponentLink2Description: Datasheet; ComponentLink2URL: http://www.onsemi.com/pub_link/Collateral/2SK4066-D.PDF; ComponentLink3Description: Package Specification; ComponentLink3URL: http://www.onsemi.com/pub_link/Collateral/418AP.PDF
footprint ONSC-TO-263-2L-3-418AP_N (DPAK, 3-Leads, Body 10.2x9.4mm, Pitch 2.54mm, IPC Medium Density)
footprint ONSC-TO-263-2L-3-418AP_L (DPAK, 3-Leads, Body 10.2x9.4mm, Pitch 2.54mm, IPC High Density)
footprint ONSC-TO-263-2L-3-418AP_M (DPAK, 3-Leads, Body 10.2x9.4mm, Pitch 2.54mm, IPC Low Density)
pins: 1 G, 3 S, 4 D

## 2SK4085LS-1E
designator Q?
N-Channel Power MOSFET, 500 V, 16 A, 430 mOhm, 3-Pin TO-220, Pb-Free, Tube; Manufacturer: On Semiconductor; PartNumber: 2SK4085LS-1E; Channel Polarity: N Channel; Ciss Typ (pF): 1200; Configuration: Single; Coss Typ (pF): 250; Crss Typ (pF): 55; V(BR)DSS Min (V): 500; VGS Max (V): 30; VGS(th) Max (V): 5; PackageVersion: Rev. O, 01/2012; PackageReference: TO-220F-3FS-3-221AM; PackageDescription: 3-Pin Flange Mount, Vertical Straight Lead, Body 10.16 x 4.7 mm, Pitch 2.54 mm; Supplier 1: Newark; Supplier Part Number 1: 46W0046; Supplier 2: Mouser; Supplier Part Number 2: 863-2SK4085LS-1E; Package Type: TO-220F-3FS; Packing: Tube; RoHS: Pb-Free; Mounting Technology: Through Hole; ComponentLink1Description: Manufacturer URL; ComponentLink1URL: http://www.onsemi.com/; ComponentLink2Description: Datasheet; ComponentLink2URL: http://www.onsemi.com/pub_link/Collateral/2SK4085LS-D.PDF; ComponentLink3Description: Package Specification; ComponentLink3URL: http://www.onsemi.com/pub_link/Collateral/221AM.PDF
footprint ONSC-TO-220F-3FS-3-221AM (FM, 3-Leads, Body 10.4x4.9mm, Pitch 2.54mm)
pins: 1 G, 2 D, 3 S

## 2SK4087LS-1E
designator Q?
N-Channel Power MOSFET, 600 V, 14 A, 610 mOhm, 3-Pin TO-220, Pb-Free, Fan-Fold; Manufacturer: On Semiconductor; PartNumber: 2SK4087LS-1E; Channel Polarity: N Channel; Ciss Typ (pF): 1200; Configuration: Single; Coss Typ (pF): 220; Crss Typ (pF): 50; V(BR)DSS Min (V): 600; VGS Max (V): 30; VGS(th) Max (V): 5; PackageVersion: Rev. O, 01/2012; PackageReference: TO-220F-3FS-3-221AM; PackageDescription: 3-Pin Flange Mount, Vertical Straight Lead, Body 10.16 x 4.7 mm, Pitch 2.54 mm; Supplier 1: Newark; Supplier Part Number 1: 60W2038; Supplier 2: Mouser; Supplier Part Number 2: 863-2SK4087LS-1E; Package Type: TO-220F-3FS; Packing: Fan-Fold; RoHS: Pb-Free; Mounting Technology: Through Hole; ComponentLink1Description: Manufacturer URL; ComponentLink1URL: http://www.onsemi.com/; ComponentLink2Description: Datasheet; ComponentLink2URL: http://www.onsemi.com/pub_link/Collateral/ENA0555-D.PDF; ComponentLink3Description: Package Specification; ComponentLink3URL: http://www.onsemi.com/pub_link/Collateral/221AM.PDF
footprint ONSC-TO-220F-3FS-3-221AM (FM, 3-Leads, Body 10.4x4.9mm, Pitch 2.54mm)
pins: 1 G, 2 D, 3 S

## 2SK4088LS-1E
designator Q?
N-Channel Power MOSFET, 650 V, 11 A, 0.85 Ohm, 3-Pin TO-220, Pb-Free, Tube; Manufacturer: On Semiconductor; PartNumber: 2SK4088LS-1E; Channel Polarity: N Channel; Ciss Typ (pF): 1000; Configuration: Single; Coss Typ (pF): 172; Crss Typ (pF): 36; V(BR)DSS Min (V): 650; VGS Max (V): 30; VGS(th) Max (V): 5; PackageVersion: Rev. O, 01/2012; PackageReference: TO-220F-3FS-3-221AM; PackageDescription: 3-Pin Flange Mount, Vertical Straight Lead, Body 10.16 x 4.7 mm, Pitch 2.54 mm; Supplier 1: Newark; Supplier Part Number 1: 72W2516; Supplier 2: Mouser; Supplier Part Number 2: 863-2SK4088LS-1E; Package Type: TO-220F-3FS; Packing: Tube; RoHS: Pb-Free; Mounting Technology: Through Hole; ComponentLink1Description: Manufacturer URL; ComponentLink1URL: http://www.onsemi.com/; ComponentLink2Description: Datasheet; ComponentLink2URL: http://www.onsemi.com/pub_link/Collateral/2SK4088LS-D.PDF; ComponentLink3Description: Package Specification; ComponentLink3URL: http://www.onsemi.com/pub_link/Collateral/221AM.PDF
footprint ONSC-TO-220F-3FS-3-221AM (FM, 3-Leads, Body 10.4x4.9mm, Pitch 2.54mm)
pins: 1 G, 2 D, 3 S

## 2SK4094-1E
designator Q?
N-Channel Power MOSFET, 60 V, 100 A, 5 mOhm, 3-Pin TO-220, Pb-Free, Tube; Manufacturer: On Semiconductor; PartNumber: 2SK4094-1E; Channel Polarity: N Channel; Ciss Typ (pF): 12500; Configuration: Single; Coss Typ (pF): 1200; Crss Typ (pF): 950; ID Max (A): 100; V(BR)DSS Min (V): 60; VGS Max (V): 20; VGS(th) Max (V): 2.6; PackageVersion: Rev. O, 03/2012; PackageReference: TO-220-3L-3-221AU; PackageDescription: 3-Pin Flange Mount, Vertical Straight Lead, Body 10 x 4.5 mm, Pitch 2.54 mm; Package Type: TO-220 3-Lead / TO-220-3L; Packing: Tube; RoHS: Pb-Free; Mounting Technology: Through Hole; ComponentLink1Description: Manufacturer URL; ComponentLink1URL: http://www.onsemi.com/; ComponentLink2Description: Datasheet; ComponentLink2URL: http://www.onsemi.com/pub_link/Collateral/ENA0523-D.PDF; ComponentLink3Description: Package Specification; ComponentLink3URL: http://www.onsemi.com/pub_link/Collateral/221AU.PDF
footprint ONSC-TO-220-3L-3-221AU (FM, 3-Leads, Body 10.2x4.7mm, Pitch 2.54mm)
pins: 1 G, 2 D, 3 S

## 2SK4096LS-1E
designator Q?
N-Channel Power MOSFET, 500 V, 8 A, 850 mOhm, 3-Pin TO-220, Pb-Free, Tube; Manufacturer: On Semiconductor; PartNumber: 2SK4096LS-1E; Channel Polarity: N Channel; Ciss Typ (pF): 600; Configuration: Single; Coss Typ (pF): 130; Crss Typ (pF): 28; V(BR)DSS Min (V): 500; VGS Max (V): 30; VGS(th) Max (V): 5; PackageVersion: Rev. O, 01/2012; PackageReference: TO-220F-3FS-3-221AM; PackageDescription: 3-Pin Flange Mount, Vertical Straight Lead, Body 10.16 x 4.7 mm, Pitch 2.54 mm; Package Type: TO-220F-3FS; Packing: Tube; RoHS: Pb-Free; Mounting Technology: Through Hole; ComponentLink1Description: Manufacturer URL; ComponentLink1URL: http://www.onsemi.com/; ComponentLink2Description: Datasheet; ComponentLink2URL: http://www.onsemi.com/pub_link/Collateral/ENA0774-D.PDF; ComponentLink3Description: Package Specification; ComponentLink3URL: http://www.onsemi.com/pub_link/Collateral/221AM.PDF
footprint ONSC-TO-220F-3FS-3-221AM (FM, 3-Leads, Body 10.4x4.9mm, Pitch 2.54mm)
pins: 1 G, 2 D, 3 S

## 2SK4099LS-1E
designator Q?
N-Channel Power MOSFET, 600 V, 8.5 A, 0.94 Ohm, 3-Pin TO-220, Pb-Free, Tube; Manufacturer: On Semiconductor; PartNumber: 2SK4099LS-1E; Channel Polarity: N Channel; Ciss Typ (pF): 750; Configuration: Single; Coss Typ (pF): 140; Crss Typ (pF): 31; V(BR)DSS Min (V): 600; VGS Max (V): 30; VGS(th) Max (V): 5; PackageVersion: Rev. O, 01/2012; PackageReference: TO-220F-3FS-3-221AM; PackageDescription: 3-Pin Flange Mount, Vertical Straight Lead, Body 10.16 x 4.7 mm, Pitch 2.54 mm; Supplier 1: Newark; Supplier Part Number 1: 72W2517; Supplier 2: Mouser; Supplier Part Number 2: 863-2SK4099LS-1E; Package Type: TO-220F-3FS; Packing: Tube; RoHS: Pb-Free; Mounting Technology: Through Hole; ComponentLink1Description: Manufacturer URL; ComponentLink1URL: http://www.onsemi.com/; ComponentLink2Description: Datasheet; ComponentLink2URL: http://www.onsemi.com/pub_link/Collateral/2SK4099LS-D.PDF; ComponentLink3Description: Package Specification; ComponentLink3URL: http://www.onsemi.com/pub_link/Collateral/221AM.PDF
footprint ONSC-TO-220F-3FS-3-221AM (FM, 3-Leads, Body 10.4x4.9mm, Pitch 2.54mm)
pins: 1 G, 2 D, 3 S

## 2SK4124-1E
designator Q?
N-Channel Power MOSFET, 500 V, 20 A, 430 mOhm, 3-Pin TO-3P, Pb-Free, Tube; Manufacturer: On Semiconductor; PartNumber: 2SK4124-1E; Channel Polarity: N Channel; Ciss Typ (pF): 1200; Configuration: Single; Coss Typ (pF): 250; Crss Typ (pF): 55; ID Max (A): 20; V(BR)DSS Min (V): 500; VGS Max (V): 30; VGS(th) Max (V): 5; PackageVersion: Rev. O, 04/2012; PackageReference: TO-3P-3L-3-340AF; PackageDescription: 3-Pin Flange Mount, Vertical Straight Lead, Body 15.6 x 4.8 mm, Pitch 5.45 mm; Supplier 1: Newark; Supplier Part Number 1: 11X5259; Supplier 2: Mouser; Supplier Part Number 2: 863-2SK4124-1E; Package Type: TO-3P-3L; Packing: Tube; RoHS: Pb-Free; Mounting Technology: Through Hole; ComponentLink1Description: Manufacturer URL; ComponentLink1URL: http://www.onsemi.com/; ComponentLink2Description: Datasheet; ComponentLink2URL: http://www.onsemi.com/pub_link/Collateral/2SK4124-D.PDF; ComponentLink3Description: Package Specification; ComponentLink3URL: http://www.onsemi.com/pub_link/Collateral/340AF.PDF
footprint ONSC-TO-3P-3L-3-340AF (FM, 3-Leads, Body 15.8x5mm, Pitch 5.45mm)
pins: 1 G, 2 D, 3 S

## 2SK4125-1E
designator Q?
N-Channel Power MOSFET, 600 V, 17 A, 610 mOhm, 3-Pin TO-3P, Pb-Free, Tube; Manufacturer: On Semiconductor; PartNumber: 2SK4125-1E; Channel Polarity: N Channel; Ciss Typ (pF): 1200; Configuration: Single; Coss Typ (pF): 220; Crss Typ (pF): 50; ID Max (A): 17; V(BR)DSS Min (V): 600; VGS Max (V): 30; VGS(th) Max (V): 5; PackageVersion: Rev. O, 04/2012; PackageReference: TO-3P-3L-3-340AF; PackageDescription: 3-Pin Flange Mount, Vertical Straight Lead, Body 15.6 x 4.8 mm, Pitch 5.45 mm; Supplier 1: Newark; Supplier Part Number 1: 60W2039; Supplier 2: Mouser; Supplier Part Number 2: 863-2SK4125-1E; Package Type: TO-3P-3L; Packing: Tube; RoHS: Pb-Free; Mounting Technology: Through Hole; ComponentLink1Description: Manufacturer URL; ComponentLink1URL: http://www.onsemi.com/; ComponentLink2Description: Datasheet; ComponentLink2URL: http://www.onsemi.com/pub_link/Collateral/2SK4125-D.PDF; ComponentLink3Description: Package Specification; ComponentLink3URL: http://www.onsemi.com/pub_link/Collateral/340AF.PDF
footprint ONSC-TO-3P-3L-3-340AF (FM, 3-Leads, Body 15.8x5mm, Pitch 5.45mm)
pins: 1 G, 2 D, 3 S

## 2SK4177-DL-1E
designator Q?
N-Channel Power MOSFET, 1500 V, 2 A, 13 Ohm, 3-Pin TO-263, Pb-Free, Tape and Reel; Manufacturer: On Semiconductor; PartNumber: 2SK4177-DL-1E; Channel Polarity: N Channel; Ciss Typ (pF): 380; Configuration: Single; Coss Typ (pF): 70; Crss Typ (pF): 40; ID Max (A): 2; PD Max (W): 80; V(BR)DSS Min (V): 1500; VGS Max (V): 20; VGS(th) Max (V): 3.5; PackageReference: TO-263-2L-3; PackageDescription: 3-Pin Flange Mount, Body 10 x 9.2 mm, Pitch 2.54 mm; Supplier 1: Newark; Supplier Part Number 1: 60W2040; Supplier 2: Mouser; Supplier Part Number 2: 863-2SK4177-DL-1E; Package Type: D2PAK / TO-263-2L; Packing: Tape and Reel; RoHS: Pb-Free; Mounting Technology: Surface Mount; ComponentLink1Description: Manufacturer URL; ComponentLink1URL: http://www.onsemi.com/; ComponentLink2Description: Datasheet; ComponentLink2URL: http://www.onsemi.com/pub_link/Collateral/ENA0869-D.PDF; ComponentLink3Description: Package Specification; ComponentLink3URL: http://www.onsemi.com/pub_link/Collateral/2SK3820-D.PDF
footprint ONSC-TO-263-2L-3_V (FM, 3-Leads, Body 10x9.2mm, Pitch 2.54mm)
pins: 1 G, 3 S, 4 D

## 2SK4196LS-1E
designator Q?
N-Channel Power MOSFET, 500 V, 5.5 A, 1.56 Ohm, 3-Pin TO-220, Pb-Free, Tube; Manufacturer: On Semiconductor; PartNumber: 2SK4196LS-1E; Channel Polarity: N Channel; Ciss Typ (pF): 360; Configuration: Single; Coss Typ (pF): 77; Crss Typ (pF): 17; V(BR)DSS Min (V): 500; VGS Max (V): 30; VGS(th) Max (V): 5; PackageVersion: Rev. O, 01/2012; PackageReference: TO-220F-3FS-3-221AM; PackageDescription: 3-Pin Flange Mount, Vertical Straight Lead, Body 10.16 x 4.7 mm, Pitch 2.54 mm; Package Type: TO-220F-3FS; Packing: Tube; RoHS: Pb-Free; Mounting Technology: Through Hole; ComponentLink1Description: Manufacturer URL; ComponentLink1URL: http://www.onsemi.com/; ComponentLink2Description: Datasheet; ComponentLink2URL: http://www.onsemi.com/pub_link/Collateral/ENA1233-D.PDF; ComponentLink3Description: Package Specification; ComponentLink3URL: http://www.onsemi.com/pub_link/Collateral/221AM.PDF
footprint ONSC-TO-220F-3FS-3-221AM (FM, 3-Leads, Body 10.4x4.9mm, Pitch 2.54mm)
pins: 1 G, 2 D, 3 S

## 2SK4197FS
designator Q?
N-Channel Power MOSFET, 600 V, 3.5 A, 3.25 Ohm, 3-Pin TO-220, Pb-Free, Tube; Manufacturer: On Semiconductor; PartNumber: 2SK4197FS; Channel Polarity: N Channel; Ciss Typ (pF): 260; Configuration: Single; Coss Typ (pF): 50; Crss Typ (pF): 9.7; V(BR)DSS Min (V): 600; VGS Max (V): 30; VGS(th) Max (V): 5; PackageVersion: Rev. O, 01/2012; PackageReference: TO-220F-3FS-3-221AM; PackageDescription: 3-Pin Flange Mount, Vertical Straight Lead, Body 10.16 x 4.7 mm, Pitch 2.54 mm; Supplier 1: Digi-Key; Supplier Part Number 1: 2SK4197FS-ND; Supplier 2: Mouser; Supplier Part Number 2: 863-2SK4197FS; Package Type: TO-220F-3FS; Packing: Tube; RoHS: Pb-Free; Mounting Technology: Through Hole; ComponentLink1Description: Manufacturer URL; ComponentLink1URL: http://www.onsemi.com/; ComponentLink2Description: Datasheet; ComponentLink2URL: http://www.onsemi.com/pub_link/Collateral/ENA1368-D.PDF; ComponentLink3Description: Package Specification; ComponentLink3URL: http://www.onsemi.com/pub_link/Collateral/221AM.PDF
footprint ONSC-TO-220F-3FS-3-221AM (FM, 3-Leads, Body 10.4x4.9mm, Pitch 2.54mm)
pins: 1 G, 2 D, 3 S

## 2SK4198FS
designator Q?
N-Channel Power MOSFET, 600 V, 5 A, 2.34 Ohm, 3-Pin TO-220, Pb-Free, Tube; Manufacturer: On Semiconductor; PartNumber: 2SK4198FS; Channel Polarity: N Channel; Ciss Typ (pF): 360; Configuration: Single; Coss Typ (pF): 69; Crss Typ (pF): 15; V(BR)DSS Min (V): 600; VGS Max (V): 30; VGS(th) Max (V): 5; PackageVersion: Rev. O, 01/2012; PackageReference: TO-220F-3FS-3-221AM; PackageDescription: 3-Pin Flange Mount, Vertical Straight Lead, Body 10.16 x 4.7 mm, Pitch 2.54 mm; Supplier 1: Digi-Key; Supplier Part Number 1: 2SK4198FS-ND; Supplier 2: Newark; Supplier Part Number 2: 07W7726; Supplier 3: Mouser; Supplier Part Number 3: 863-2SK4198FS; Package Type: TO-220F-3FS; Packing: Tube; RoHS: Pb-Free; Mounting Technology: Through Hole; ComponentLink1Description: Manufacturer URL; ComponentLink1URL: http://www.onsemi.com/; ComponentLink2Description: Datasheet; ComponentLink2URL: http://www.onsemi.com/pub_link/Collateral/ENA1370-D.PDF; ComponentLink3Description: Package Specification; ComponentLink3URL: http://www.onsemi.com/pub_link/Collateral/221AM.PDF
footprint ONSC-TO-220F-3FS-3-221AM (FM, 3-Leads, Body 10.4x4.9mm, Pitch 2.54mm)
pins: 1 G, 2 D, 3 S

## 2V7002KT1G
designator Q?
Small Signal MOSFET, 60 V, 380 mA, Single, N-Channel, 3-Pin SOT-23, Pb-Free, Tape and Reel; Manufacturer: On Semiconductor; PartNumber: 2V7002KT1G; Channel Polarity: N Channel; Ciss Typ (pF): 24.5; Coss Typ (pF): 4.2; Crss Typ (pF): 2.2; ID Max (A): 0.38; V(BR)DSS Min (V): 60; VGS Max (V): 20; VGS(th) Max (V): 2.3; DatasheetVersion: Rev. 11; PackageVersion: Rev. AP, 11/2009; PackageReference: SOT-23-3-318-08; PackageDescription: 3-Pin Small Outline Transistor, Body 2.92 x 1.3 mm, Pitch 0.95 mm; Supplier 1: Digi-Key; Supplier Part Number 1: 2V7002KT1GOSTR-ND; Supplier 2: Digi-Key; Supplier Part Number 2: 2V7002KT1GOSCT-ND; Supplier 3: Digi-Key; Supplier Part Number 3: 2V7002KT1GOSDKR-ND; Supplier 4: Newark; Supplier Part Number 4: 76T8297; Supplier 5: Mouser; Supplier Part Number 5: 863-2V7002KT1G; Configuration: Single; Package Type: SOT-23-3; Packing: Tape and Reel; RoHS: Pb-Free; Mounting Technology: Surface Mount; ComponentLink1Description: Manufacturer URL; ComponentLink1URL: http://www.onsemi.com/; ComponentLink2Description: Datasheet; ComponentLink2URL: http://www.onsemi.com/pub_link/Collateral/2N7002K-D.PDF; ComponentLink3Description: Package Specification; ComponentLink3URL: http://www.onsemi.cn/pub_link/Collateral/318-08.PDF
footprint ONSC-SOT-23-3-318-08_V (SOT23, 3-Leads, Body 2.92x1.3mm, Pitch 0.95mm)
pins: 1 G, 2 S, 3 D

## 2V7002LT1G
designator Q?
Small Signal MOSFET, 60 V, 115 mA, N-Channel, 3-Pin SOT-23, Pb-Free, Tape and Reel; Manufacturer: On Semiconductor; PartNumber: 2V7002LT1G; Channel Polarity: N Channel; Configuration: Single; ID Max (A): 0.115; V(BR)DSS Min (V): 60; VGS Max (V): 20; VGS(th) Max (V): 2.5; DatasheetVersion: Rev. 7; PackageVersion: Rev. AP, 11/2009; PackageReference: SOT-23-3-318-08; PackageDescription: 3-Pin Small Outline Transistor, Body 2.92 x 1.3 mm, Pitch 0.95 mm; Supplier 1: Digi-Key; Supplier Part Number 1: 2V7002LT1GOSTR-ND; Supplier 2: Digi-Key; Supplier Part Number 2: 2V7002LT1GOSCT-ND; Supplier 3: Digi-Key; Supplier Part Number 3: 2V7002LT1GOSDKR-ND; Supplier 4: Newark; Supplier Part Number 4: 76T8298; Supplier 5: Mouser; Supplier Part Number 5: 863-2V7002LT1G; Package Type: SOT-23-3; Packing: Tape and Reel; RoHS: Pb-Free; Mounting Technology: Surface Mount; ComponentLink1Description: Manufacturer URL; ComponentLink1URL: http://www.onsemi.com/; ComponentLink2Description: Datasheet; ComponentLink2URL: http://www.onsemi.com/pub_link/Collateral/2N7002L-D.PDF; ComponentLink3Description: Package Specification; ComponentLink3URL: http://www.onsemi.cn/pub_link/Collateral/318-08.PDF
footprint ONSC-SOT-23-3-318-08_V (SOT23, 3-Leads, Body 2.92x1.3mm, Pitch 0.95mm)
pins: 1 G, 2 S, 3 D

## 2V7002LT3G
designator Q?
Small Signal MOSFET, 60 V, 115 mA, N-Channel, 3-Pin SOT-23, Pb-Free, Tape and Reel; Manufacturer: On Semiconductor; PartNumber: 2V7002LT3G; Channel Polarity: N Channel; Configuration: Single; ID Max (A): 0.115; V(BR)DSS Min (V): 60; VGS Max (V): 20; VGS(th) Max (V): 2.5; DatasheetVersion: Rev. 7; PackageVersion: Rev. AP, 11/2009; PackageReference: SOT-23-3-318-08; PackageDescription: 3-Pin Small Outline Transistor, Body 2.92 x 1.3 mm, Pitch 0.95 mm; Supplier 1: Mouser; Supplier Part Number 1: 863-2V7002LT3G; Package Type: SOT-23-3; Packing: Tape and Reel; RoHS: Pb-Free; Mounting Technology: Surface Mount; ComponentLink1Description: Manufacturer URL; ComponentLink1URL: http://www.onsemi.com/; ComponentLink2Description: Datasheet; ComponentLink2URL: http://www.onsemi.com/pub_link/Collateral/2N7002L-D.PDF; ComponentLink3Description: Package Specification; ComponentLink3URL: http://www.onsemi.cn/pub_link/Collateral/318-08.PDF
footprint ONSC-SOT-23-3-318-08_V (SOT23, 3-Leads, Body 2.92x1.3mm, Pitch 0.95mm)
pins: 1 G, 2 S, 3 D

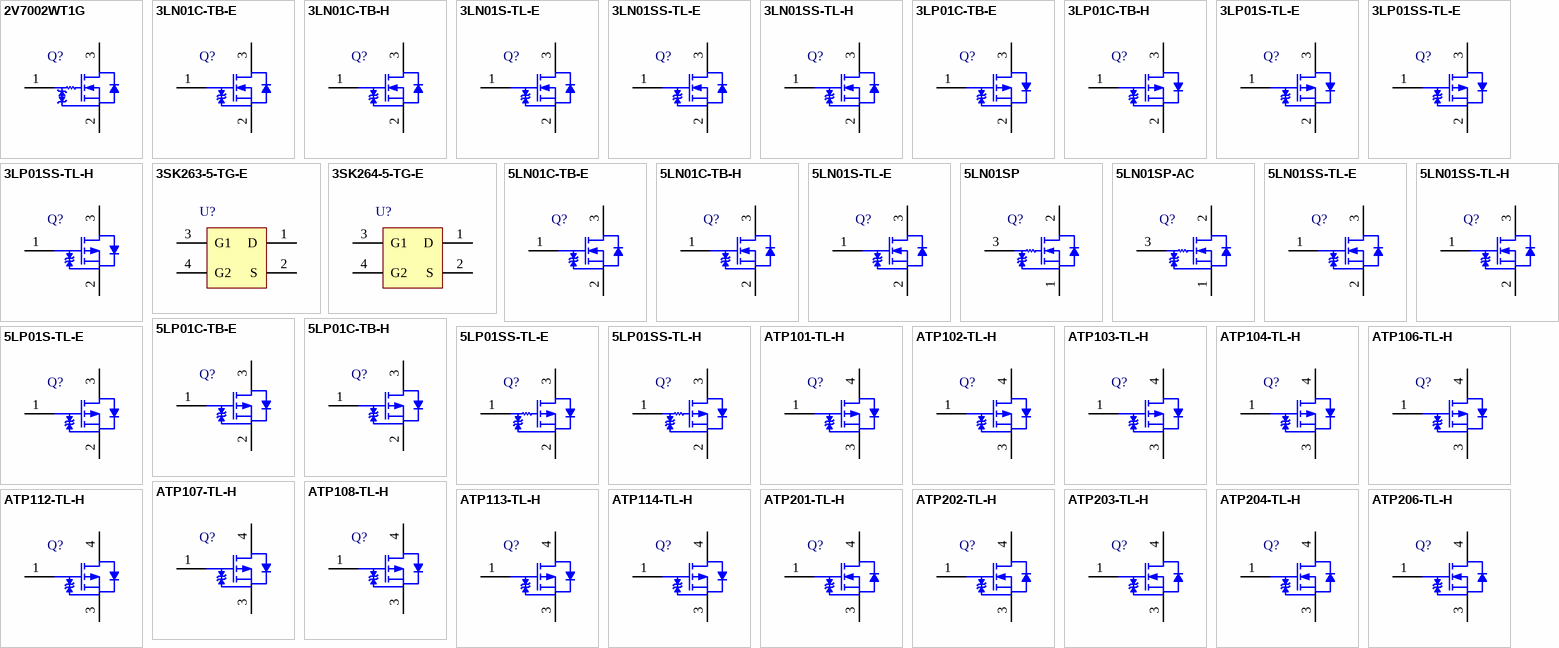
[diagram p1: symbols 2V7002WT1G to ATP206-TL-H]

## 2V7002WT1G
designator Q?
Small Signal MOSFET, 60 V, 340 mA, Single, N-Channel, 3-Pin SC70, Pb-Free, Tape and Reel; Manufacturer: On Semiconductor; PartNumber: 2V7002WT1G; Channel Polarity: N Channel; Ciss Typ (pF): 24.5; Coss Typ (pF): 4.2; Crss Typ (pF): 2.2; ID Max (A): 0.34; V(BR)DSS Min (V): 60; VGS Max (V): 20; VGS(th) Max (V): 2.5; DatasheetVersion: Rev. 5; PackageVersion: Rev. N, 11/2008; PackageReference: SC-70-3-419-04; PackageDescription: 3-Pin Small Outline Transistor, Body 2 x 1.25 mm, Pitch 0.65 mm; Supplier 1: Digi-Key; Supplier Part Number 1: 2V7002WT1G-ND; Supplier 2: Newark; Supplier Part Number 2: 76T8300; Supplier 3: Mouser; Supplier Part Number 3: 863-2V7002WT1G; Configuration: Single; Package Type: SC-70-3 / SOT-323-3; Packing: Tape and Reel; RoHS: Pb-Free; Mounting Technology: Surface Mount; ComponentLink1Description: Manufacturer URL; ComponentLink1URL: http://www.onsemi.com/; ComponentLink2Description: Datasheet; ComponentLink2URL: http://www.onsemi.com/pub_link/Collateral/2N7002W-D.PDF; ComponentLink3Description: Package Specification; ComponentLink3URL: http://www.onsemi.cn/pub_link/Collateral/419-04.PDF
footprint ONSC-SC-70-3-419-04_V (SOT23, 3-Leads, Body 2x1.25mm, Pitch 0.65mm)
pins: 1 G, 2 S, 3 D